# Altium schematic symbol library lib.SchLib: 1 symbol
Pins are listed as number, name and electrical type; pins without a type are passive.

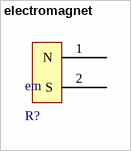
[diagram p0: symbol electromagnet]

## electromagnet
designator em, comment R?
footprint electromagnet
pins: 1 N, 2 S